# Altium schematic symbol library BA17806CP-E2.SchLib: 1 symbol
Pins are listed as number, name and electrical type; pins without a type are passive.

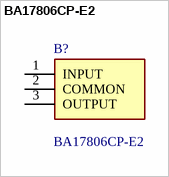
[diagram p0: symbol BA17806CP-E2]

## BA17806CP-E2
designator B?
Standard Voltage Regulators; Manufacturer_Name: ROHM Semiconductor; Geometry.Height: 4.6mm; Mouser Part Number: 755-BA17806CP-E2; Mouser Price/Stock: https://www.mouser.co.uk/ProductDetail/ROHM-Semiconductor/BA17806CP-E2?qs=IsRgwgmxh6%252Bu7gXf8CL%252Bqw%3D%3D; Manufacturer_Part_Number: BA17806CP-E2; Datasheet Link: https://fscdn.rohm.com/jp/products/databook/datasheet/ic/power/linear_regulator/ba178_series-j.pdf
footprint TO254P460X1010X1720-3P
pins: 1 INPUT, 2 COMMON, 3 OUTPUT